# Altium schematic symbol library Memory_EPROM.SchLib: 13 symbols
Pins are listed as number, name and electrical type; pins without a type are passive.

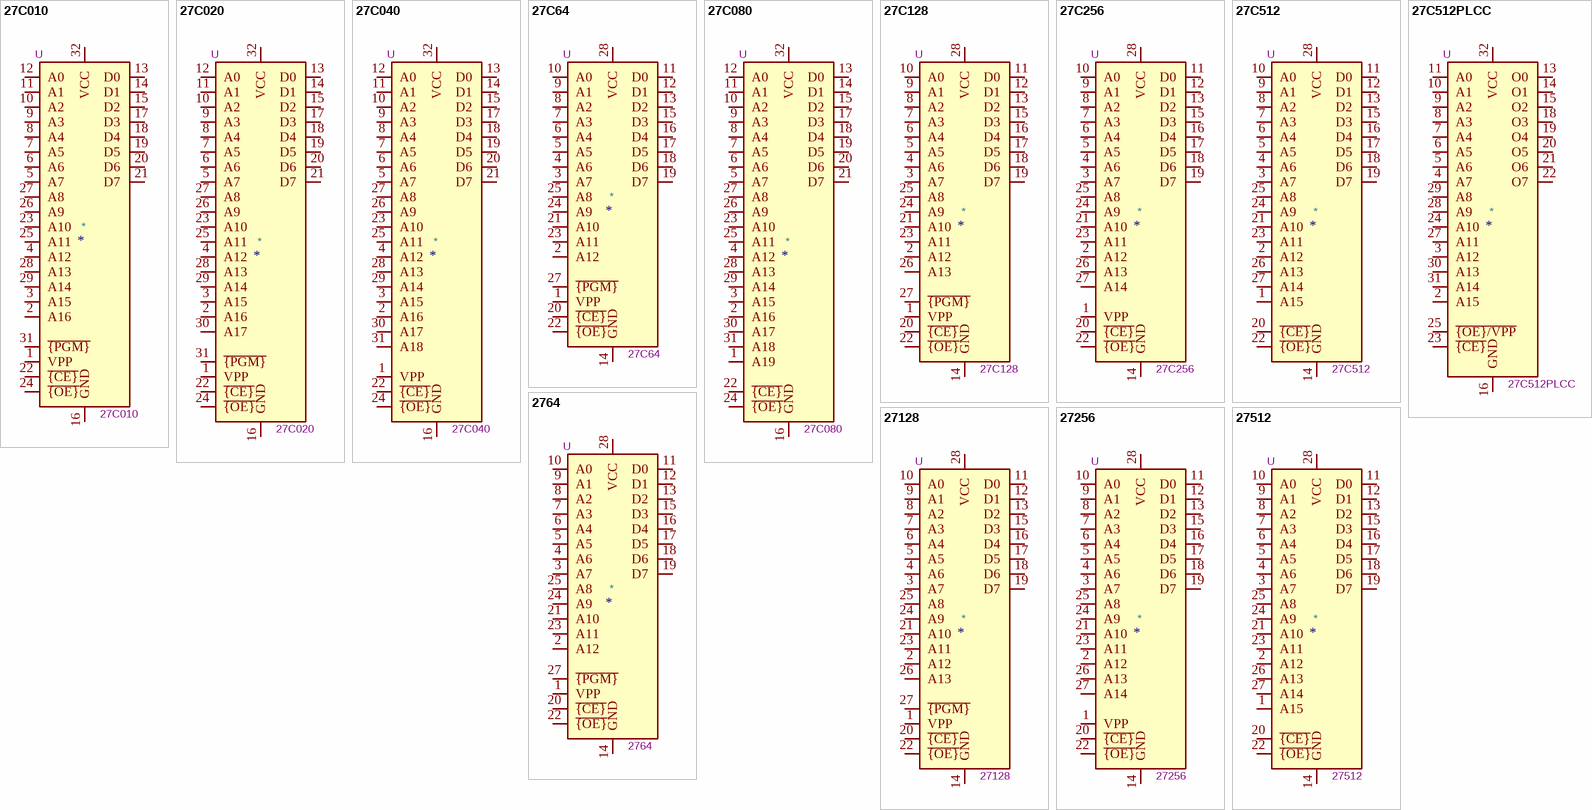
[diagram p0: symbols 27C010 to 27512]

## 27C010
designator *  value 27C010  Reference: U
ki_keywords: OTP EPROM 1MiBit; ki_description: OTP EPROM 1 MiBit (128 Ki x 8 Bit); ki_fp_filters: DIP*W15.24mm* PLCC*; Datasheet: http://ww1.microchip.com/downloads/en/DeviceDoc/doc0321.pdf
pins: 1 VPP, 2 A16, 3 A15, 4 A12, 5 A7, 6 A6, 7 A5, 8 A4, 9 A3, 10 A2, 11 A1, 12 A0, 13 D0, 14 D1, 15 D2, 16 GND, 17 D3, 18 D4, 19 D5, 20 D6, 21 D7, 22 ~{{CE}}, 23 A10, 24 ~{{OE}}, 25 A11, 26 A9, 27 A8, 28 A13, 29 A14, 31 ~{{PGM}}, 32 VCC

## 27C020
designator *  value 27C020  Reference: U
ki_keywords: OTP EPROM 2MiBit; ki_description: OTP EPROM 2 MiBit (256 Ki x 8 Bit); ki_fp_filters: DIP*W15.24mm* PLCC*; Datasheet: http://ww1.microchip.com/downloads/en/devicedoc/doc0570.pdf
pins: 1 VPP, 2 A16, 3 A15, 4 A12, 5 A7, 6 A6, 7 A5, 8 A4, 9 A3, 10 A2, 11 A1, 12 A0, 13 D0, 14 D1, 15 D2, 16 GND, 17 D3, 18 D4, 19 D5, 20 D6, 21 D7, 22 ~{{CE}}, 23 A10, 24 ~{{OE}}, 25 A11, 26 A9, 27 A8, 28 A13, 29 A14, 30 A17, 31 ~{{PGM}}, 32 VCC

## 27C040
designator *  value 27C040  Reference: U
ki_keywords: OTP EPROM 4MiBit; ki_description: OTP EPROM 4 MiBit (512 Ki x 8); ki_fp_filters: DIP*W15.24mm* PLCC*; Datasheet: http://ww1.microchip.com/downloads/en/devicedoc/doc0189.pdf
pins: 1 VPP, 2 A16, 3 A15, 4 A12, 5 A7, 6 A6, 7 A5, 8 A4, 9 A3, 10 A2, 11 A1, 12 A0, 13 D0, 14 D1, 15 D2, 16 GND, 17 D3, 18 D4, 19 D5, 20 D6, 21 D7, 22 ~{{CE}}, 23 A10, 24 ~{{OE}}, 25 A11, 26 A9, 27 A8, 28 A13, 29 A14, 30 A17, 31 A18, 32 VCC

## 27C64
designator *  value 27C64  Reference: U
ki_keywords: OTP EPROM 64KiBit; ki_description: OTP EPROM 64 KiBit, [Obsolete 2004-01]; ki_fp_filters: DIP*W15.24mm*; Footprint: Package_DIP:DIP-28_W15.24mm; Datasheet: http://ww1.microchip.com/downloads/en/DeviceDoc/11107M.pdf
pins: 1 VPP, 2 A12, 3 A7, 4 A6, 5 A5, 6 A4, 7 A3, 8 A2, 9 A1, 10 A0, 11 D0, 12 D1, 13 D2, 14 GND, 15 D3, 16 D4, 17 D5, 18 D6, 19 D7, 20 ~{{CE}}, 21 A10, 22 ~{{OE}}, 23 A11, 24 A9, 25 A8, 26 NC hidden, 27 ~{{PGM}}, 28 VCC

## 27C080
designator *  value 27C080  Reference: U
ki_keywords: OTP EPROM 8MiBit; ki_description: OTP EPROM 8 MiBit (1 Mi x 8); ki_fp_filters: DIP*W15.24mm* PLCC*; Datasheet: http://ww1.microchip.com/downloads/en/devicedoc/doc0360.pdf
pins: 1 A19, 2 A16, 3 A15, 4 A12, 5 A7, 6 A6, 7 A5, 8 A4, 9 A3, 10 A2, 11 A1, 12 A0, 13 D0, 14 D1, 15 D2, 16 GND, 17 D3, 18 D4, 19 D5, 20 D6, 21 D7, 22 ~{{CE}}, 23 A10, 24 ~{{OE}}, 25 A11, 26 A9, 27 A8, 28 A13, 29 A14, 30 A17, 31 A18, 32 VCC

## 27C128
designator *  value 27C128  Reference: U
ki_keywords: OTP EPROM 128KiBit; ki_description: OTP EPROM 128 KiBit, [Obsolete 2004-01]; ki_fp_filters: DIP*W15.24mm*; Footprint: Package_DIP:DIP-28_W15.24mm; Datasheet: http://ww1.microchip.com/downloads/en/devicedoc/11003L.pdf
pins: 1 VPP, 2 A12, 3 A7, 4 A6, 5 A5, 6 A4, 7 A3, 8 A2, 9 A1, 10 A0, 11 D0, 12 D1, 13 D2, 14 GND, 15 D3, 16 D4, 17 D5, 18 D6, 19 D7, 20 ~{{CE}}, 21 A10, 22 ~{{OE}}, 23 A11, 24 A9, 25 A8, 26 A13, 27 ~{{PGM}}, 28 VCC

## 27C256
designator *  value 27C256  Reference: U
ki_keywords: OTP EPROM 256 KiBit; ki_fp_filters: DIP*W15.24mm*; Footprint: Package_DIP:DIP-28_W15.24mm; Datasheet: http://ww1.microchip.com/downloads/en/DeviceDoc/doc0014.pdf; ki_description: OTP EPROM 256 KiBit
pins: 1 VPP, 2 A12, 3 A7, 4 A6, 5 A5, 6 A4, 7 A3, 8 A2, 9 A1, 10 A0, 11 D0, 12 D1, 13 D2, 14 GND, 15 D3, 16 D4, 17 D5, 18 D6, 19 D7, 20 ~{{CE}}, 21 A10, 22 ~{{OE}}, 23 A11, 24 A9, 25 A8, 26 A13, 27 A14, 28 VCC

## 27C512
designator *  value 27C512  Reference: U
ki_keywords: OTP EPROM 512KiBit; ki_description: OTP EPROM 512 KiBit; ki_fp_filters: DIP*W15.24mm*; Footprint: Package_DIP:DIP-28_W15.24mm; Datasheet: http://ww1.microchip.com/downloads/en/DeviceDoc/doc0015.pdf
pins: 1 A15, 2 A12, 3 A7, 4 A6, 5 A5, 6 A4, 7 A3, 8 A2, 9 A1, 10 A0, 11 D0, 12 D1, 13 D2, 14 GND, 15 D3, 16 D4, 17 D5, 18 D6, 19 D7, 20 ~{{CE}}, 21 A10, 22 ~{{OE}}, 23 A11, 24 A9, 25 A8, 26 A13, 27 A14, 28 VCC

## 27C512PLCC
designator *  value 27C512PLCC  Reference: U
ki_keywords: OTP EPROM 512KiBit; ki_description: OTP EPROM 512 KiBit PLCC-32; ki_fp_filters: PLCC?32*11.4x14.0mm*P1.27mm*; Footprint: Package_LCC:PLCC-32_11.4x14.0mm_P1.27mm; Datasheet: http://ww1.microchip.com/downloads/en/DeviceDoc/doc0015.pdf
pins: 1 NC hidden, 2 A15, 3 A12, 4 A7, 5 A6, 6 A5, 7 A4, 8 A3, 9 A2, 10 A1, 11 A0, 12 NC hidden, 13 O0, 14 O1, 15 O2, 16 GND, 17 NC hidden, 18 O3, 19 O4, 20 O5, 21 O6, 22 O7, 23 ~{{CE}}, 24 A10, 25 ~{{OE}/VPP}, 26 NC hidden, 27 A11, 28 A9, 29 A8, 30 A13, 31 A14, 32 VCC

## 2764
designator *  value 2764  Reference: U
ki_keywords: EPROM 64KiBit; ki_description: EPROM 64 KiBit, [Obsolete 2000-11]; ki_fp_filters: DIP*W15.24mm*; Footprint: Package_DIP:DIP-28_W15.24mm; Datasheet: https://downloads.reactivemicro.com/Electronics/ROM/2764%20EPROM.pdf
pins: 1 VPP, 2 A12, 3 A7, 4 A6, 5 A5, 6 A4, 7 A3, 8 A2, 9 A1, 10 A0, 11 D0, 12 D1, 13 D2, 14 GND, 15 D3, 16 D4, 17 D5, 18 D6, 19 D7, 20 ~{{CE}}, 21 A10, 22 ~{{OE}}, 23 A11, 24 A9, 25 A8, 26 NC hidden, 27 ~{{PGM}}, 28 VCC

## 27128
designator *  value 27128  Reference: U
ki_keywords: Erasable OTP EPROM 128KiBit; ki_description: UV Erasable EPROM 128 KiBit, [Obsolete 2000-11]; ki_fp_filters: DIP*W15.24mm*; Footprint: Package_DIP:DIP-28_W15.24mm; Datasheet: http://eeshop.unl.edu/pdf/27128.pdf
pins: 1 VPP, 2 A12, 3 A7, 4 A6, 5 A5, 6 A4, 7 A3, 8 A2, 9 A1, 10 A0, 11 D0, 12 D1, 13 D2, 14 GND, 15 D3, 16 D4, 17 D5, 18 D6, 19 D7, 20 ~{{CE}}, 21 A10, 22 ~{{OE}}, 23 A11, 24 A9, 25 A8, 26 A13, 27 ~{{PGM}}, 28 VCC

## 27256
designator *  value 27256  Reference: U
ki_keywords: Erasable EPROM 256 KiBit; ki_description: UV Erasable EPROM 256 KiBit, [Obsolete 2000-11]; ki_fp_filters: DIP*W15.24mm*; Footprint: Package_DIP:DIP-28_W15.24mm; Datasheet: http://datasheet.octopart.com/D27256-2-Intel-datasheet-17852618.pdf
pins: 1 VPP, 2 A12, 3 A7, 4 A6, 5 A5, 6 A4, 7 A3, 8 A2, 9 A1, 10 A0, 11 D0, 12 D1, 13 D2, 14 GND, 15 D3, 16 D4, 17 D5, 18 D6, 19 D7, 20 ~{{CE}}, 21 A10, 22 ~{{OE}}, 23 A11, 24 A9, 25 A8, 26 A13, 27 A14, 28 VCC

## 27512
designator *  value 27512  Reference: U
ki_keywords: Erasable EPROM 512KiBit; ki_description: UV Erasable EPROM 512 KiBit, [Obsolete 2007-01]; ki_fp_filters: DIP*W15.24mm*; Footprint: Package_DIP:DIP-28_W15.24mm; Datasheet: http://pdf.datasheetcatalog.com/datasheets/120/227190_DS.pdf
pins: 1 A15, 2 A12, 3 A7, 4 A6, 5 A5, 6 A4, 7 A3, 8 A2, 9 A1, 10 A0, 11 D0, 12 D1, 13 D2, 14 GND, 15 D3, 16 D4, 17 D5, 18 D6, 19 D7, 20 ~{{CE}}, 21 A10, 22 ~{{OE}}, 23 A11, 24 A9, 25 A8, 26 A13, 27 A14, 28 VCC